# Altium schematic symbol library LIS3DHTR.SchLib: 1 symbol
Pins are listed as number, name and electrical type; pins without a type are passive.

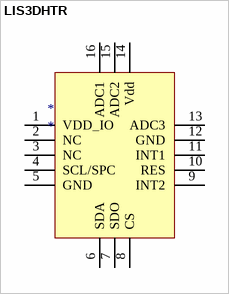
[diagram p0: symbol LIS3DHTR]

## LIS3DHTR
designator *
footprint LGA16
pins: 1 VDD_IO, 2 NC, 3 NC, 4 SCL/SPC, 5 GND, 6 SDA, 7 SDO, 8 CS, 9 INT2, 10 RES, 11 INT1, 12 GND, 13 ADC3, 14 Vdd, 15 ADC2, 16 ADC1